# Altium footprint library SOP102P1536X780-48N.PcbLib: 1 footprints
Each footprint in its own frame and in the unit in brackets; x right, y up, seen from the top. Pads: shape width x height; smd on the part's side, far side on the other; paste and mask are expansions set on the pad; w line width, h text height; cw(c..) or ccw(c..) is an arc to the next point about the centre after c.
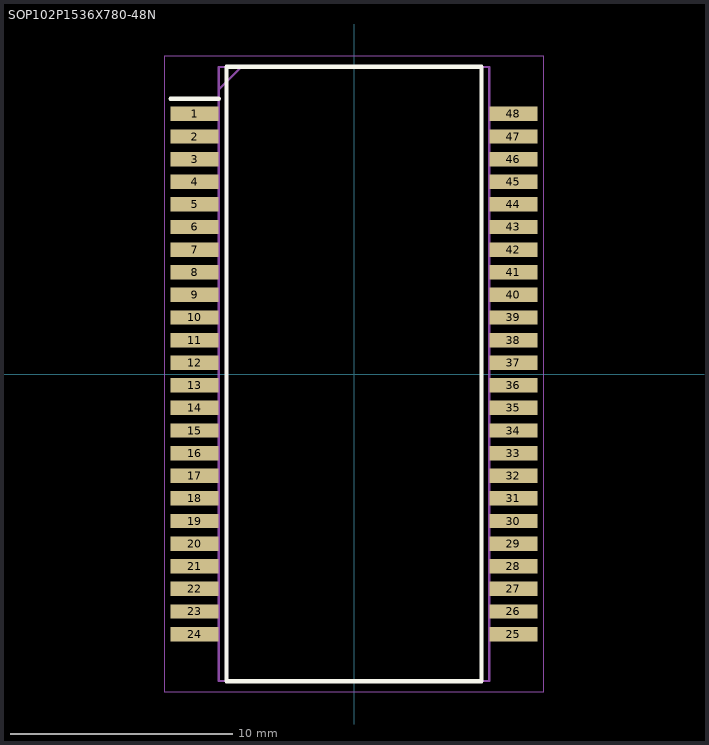
[diagram p0: the footprint, top view; thin cyan lines are the x and y axes]

## SOP102P1536X780-48N [mm]
pads (48):
  rect 2.175x0.65 smd: 1(-7.188,11.73) 2(-7.188,10.71) 3(-7.188,9.69) 4(-7.188,8.67) 5(-7.188,7.65) 6(-7.188,6.63) 7(-7.188,5.61) 8(-7.188,4.59) 9(-7.188,3.57) 10(-7.188,2.55) 11(-7.188,1.53) 12(-7.188,0.51) 13(-7.188,-0.51) 14(-7.188,-1.53) 15(-7.188,-2.55) 16(-7.188,-3.57) 17(-7.188,-4.59) 18(-7.188,-5.61) 19(-7.188,-6.63) 20(-7.188,-7.65) 21(-7.188,-8.67) 22(-7.188,-9.69) 23(-7.188,-10.71) 24(-7.188,-11.73) 25(7.188,-11.73) 26(7.188,-10.71) 27(7.188,-9.69) 28(7.188,-8.67) 29(7.188,-7.65) 30(7.188,-6.63) 31(7.188,-5.61) 32(7.188,-4.59) 33(7.188,-3.57) 34(7.188,-2.55) 35(7.188,-1.53) 36(7.188,-0.51) 37(7.188,0.51) 38(7.188,1.53) 39(7.188,2.55) 40(7.188,3.57) 41(7.188,4.59) 42(7.188,5.61) 43(7.188,6.63) 44(7.188,7.65) 45(7.188,8.67) 46(7.188,9.69) 47(7.188,10.71) 48(7.188,11.73)
Top Overlay:
  lines w0.2: -8.275,12.405 -6.1,12.405 ; -5.75,-13.85 5.75,-13.85 5.75,13.85 -5.75,13.85 -5.75,-13.85
Mechanical 15:
  lines w0.1: -6.1,12.83 -5.08,13.85 ; -6.1,-13.85 6.1,-13.85 6.1,13.85 -6.1,13.85 -6.1,-13.85
Mechanical 20:
  lines w0.05: -8.525,-14.35 8.525,-14.35 8.525,14.35 -8.525,14.35 -8.525,-14.35